# Altium footprint library Misc.PcbLib: 2 footprints
Each footprint in its own frame and in the unit in brackets; x right, y up, seen from the top. Pads: shape width x height; smd on the part's side, far side on the other; paste and mask are expansions set on the pad; w line width, h text height; cw(c..) or ccw(c..) is an arc to the next point about the centre after c.
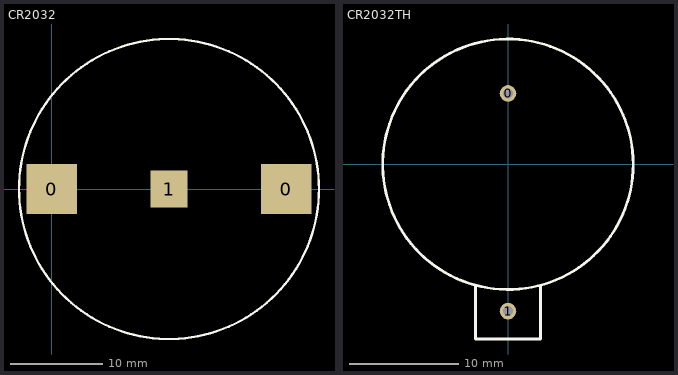
[diagram p0: the footprints below, top view; thin cyan lines are the x and y axes]

## CR2032 [mm]
pads (3):
  rect 5.5x5.5 smd: 0(0,0) 0(25.6,0)
  rect 4x4 smd: 1(12.8,0)
Top Overlay:
  circle w0.254: c12.8,0 r16.347

## CR2032TH [mil] "Through Hole"
pads (2):
  round 60 hole 35: 0(0,256) 1(0,-531)
Top Overlay:
  circle w10: c0,0 r453
  lines w10: -118,-438 -118,-632 118,-632 118,-438
3D body: height 272, standoff -157.48, extent -452.75,-664.29 452.75,457.76